# EAGLE library part A4950 (library untitled)
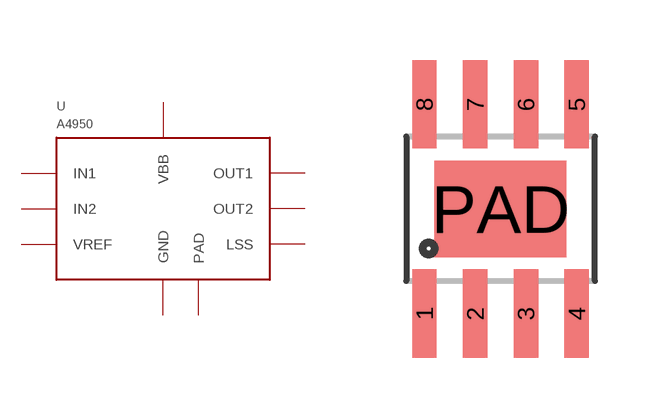
[diagram p1: symbol with the pads of SOIC8_PAD; footprint SOIC8_PAD]

Designator prefix U

## A4950  [SOIC8_PAD]
1  GND
2  IN2
3  IN1
4  VREF
5  VBB
6  OUT1
7  LSS
8  OUT2
PAD  PAD

## Footprint SOIC8_PAD (pad centres in mm)
smd 0.61 x 2.21: 1 -1.905,-2.616; 2 -0.635,-2.616; 3 0.635,-2.616; 4 1.905,-2.616; 5 1.905,2.616; 6 0.635,2.616; 7 -0.635,2.616; 8 -1.905,2.616
smd 3.3 x 2.41: PAD 0,0